# Altium schematic symbol library IC-ANALOG.SchLib: 14 symbols
Pins are listed as number, name and electrical type; pins without a type are passive.

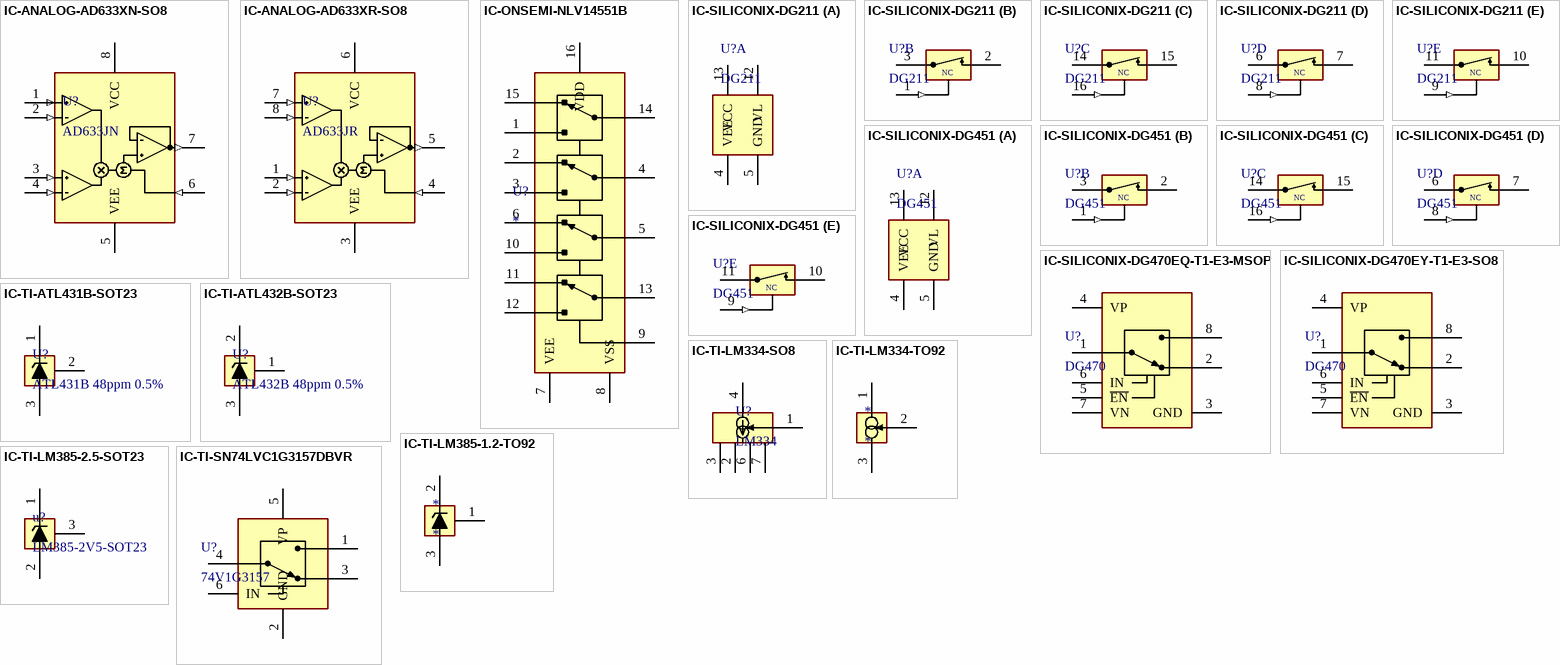
[diagram p0: symbols IC-ANALOG-AD633XN-SO8 to IC-TI-SN74LVC1G3157DBVR]

## IC-ANALOG-AD633XN-SO8
designator U?, comment AD633JN
IC,ANALOG,MULTIPLIER,ANALOGDEVICES,AD633XN
footprint SO127P600-8N (SO8)
pins: 1 X1P (in), 2 X1N (in), 3 YP (in), 4 YN (in), 5 VEE (power), 6 Z (in), 7 W (out), 8 VCC (power)

## IC-ANALOG-AD633XR-SO8
designator U?, comment AD633JR
IC,ANALOG,MULTIPLIER,ANALOGDEVICES,AD633JRZ,SO8; DIGIKEY: 505-AD633JRZ-ND; Manufacturer 1: ANALOG DEVICES; Manufacturer Part Number 1: AD633JRZ
footprint SO127P600-8N (SO8)
pins: 1 YP (in), 2 YN (in), 3 VEE (power), 4 Z (in), 5 W (out), 6 VCC (power), 7 X1P (in), 8 X1N (in)

## IC-ONSEMI-NLV14551B
designator U?
IC,ANALOG,4PDT ANALOG SWITCH,ONSEMI,NLV14551,SO16; Manufacturer Part Number 1: NLV14551BDR2G; LCSC: C904812; Manufacturer 1: ONSEMI
footprint SO127P600-16N (SO16)
pins: 1 W1, 2 X0, 3 X1, 4 X, 5 Y, 6 Y0, 7 VEE, 8 VSS, 9 CTRL, 10 Y1, 11 Z0, 12 Z1, 13 Z, 14 W, 15 W0, 16 VDD

## IC-SILICONIX-DG211
designator U?, comment DG211
IC,ANALOG,4XSPST ANALOG SWITCH,NC,,SILICONIX,DG211,SO16; Manufacturer 1: VISHAY SILICONIX; Manufacturer Part Number 1: DG211BDY-T1-E3; DIGIKEY: DG211BDY-T1-E3CT-ND
footprint SO127P600-16N (SO16)
part A pins: 4 VEE (power), 5 GND (power), 12 VL (power), 13 VCC (power)
part B pins: 1 (in), 2, 3
part C pins: 14, 15, 16 (in)
part D pins: 6, 7, 8 (in)
part E pins: 9 (in), 10, 11
part B text: NC
part C text: NC
part D text: NC
part E text: NC

## IC-SILICONIX-DG451
designator U?, comment DG451
IC,ANALOG,4XSPST ANALOG SWITCH,NC,,SILICONIX,DG451,SO16; Manufacturer 1: VISHAY SILICONIX; Manufacturer Part Number 1: DG451EY-T1-E3; DIGIKEY: DG451EY-T1-E3CT-ND
footprint SO127P600-16N (SO16)
part A pins: 4 VEE (power), 5 GND (power), 12 VL (power), 13 VCC (power)
part B pins: 1 (in), 2, 3
part C pins: 14, 15, 16 (in)
part D pins: 6, 7, 8 (in)
part E pins: 9 (in), 10, 11
part B text: NC
part C text: NC
part D text: NC
part E text: NC

## IC-SILICONIX-DG470EQ-T1-E3-MSOP
designator U?, comment DG470
IC,ANALOG,SPDT ANALOG SWITCH,SILICONIX,DG470EQ-T1-E3,MSOP8
pins: 1 COM, 2 COM, 3 GND, 4 VP, 5 ~{EN}, 6 IN, 7 VN, 8 NO

## IC-SILICONIX-DG470EY-T1-E3-SO8
designator U?, comment DG470
IC,ANALOG,SPDT ANALOG SWITCH,SILICONIX,DG470EY-T1-E3,SO8; Manufacturer 1: VSHIAY; DIGIKEY: DG470EY-T1-E3CT-ND; Manufacturer Part Number 1: DG470EY-T1-E3
footprint SO127P600-8N (SO8)
pins: 1 COM, 2 COM, 3 GND, 4 VP, 5 ~{EN}, 6 IN, 7 VN, 8 NO

## IC-TI-ATL431B-SOT23
designator U?, comment ATL431B 48ppm 0.5%
IC,REGULATOR,REFERENCE,SHUNT,0.5%,48ppm,TL431,SOT23; Manufacturer 1: TI; Manufacturer Part Number 1: ATL431BIDBZR; DIGIKEY: 296-47739-1-ND
footprint SOT23 (SOT23 PACKAGE, 3 PIN)
pins: 1, 2, 3

## IC-TI-ATL432B-SOT23
designator U?, comment ATL432B 48ppm 0.5%
IC,REGULATOR,REFERENCE,SHUNT,0.5%,48ppm,ATL432,SOT23; Manufacturer 1: TI; Manufacturer Part Number 1: ATL432BIDBZR; DIGIKEY: 296-ATL432BIDBZRCT-ND
footprint SOT23 (SOT23 PACKAGE, 3 PIN)
pins: 1, 2, 3

## IC-TI-LM334-SO8
designator U?, comment LM334
IC,ANALOG,CURRENT SOURCE,TI,LM334,SO8; Manufacturer 1: TEXAS INSTRUMENTS; Manufacturer Part Number 1: LM334MX/NOPB
footprint so127p600-8n (SO8)
pins: 1, 2, 3, 4, 6, 7

## IC-TI-LM334-TO92
designator *
pins: 1, 2, 3

## IC-TI-LM385-1.2-TO92
designator *
pins: 1, 2, 3

## IC-TI-LM385-2.5-SOT23
designator u?, comment LM385-2V5-SOT23
IC,REGULATOR,REFERENCE,2.5V,LM385,SOT23; Manufacturer 1: TI; Manufacturer Part Number 1: LM385M3X-2.5/NOPB; DIGIKEY: LM385M3X-2.5/NOPBCT-ND
footprint SOT23 (SOT23 PACKAGE, 3 PIN)
pins: 1, 2, 3

## IC-TI-SN74LVC1G3157DBVR
designator U?, comment 74V1G3157
IC,ANALOG,SPDT ANALOG SWITCH,SINGLEGATE,TI,SN74LVC1G3157DBVR,SOT23-6; LCSC: C2673494; DIGIKEY: 296-14908-1-ND; Manufacturer 1: TI; Manufacturer Part Number 1: SN74LVC1G3157DBVR
footprint SOT23-6 (SOT23 PACKAGE, 6 PIN (SOT26))
pins: 1 NO, 2 GND, 3 B1, 4 COM, 5 VP, 6 IN